# EAGLE library part TI-SN74LV4052A (library IC, 4to1 BackplaneMUX)
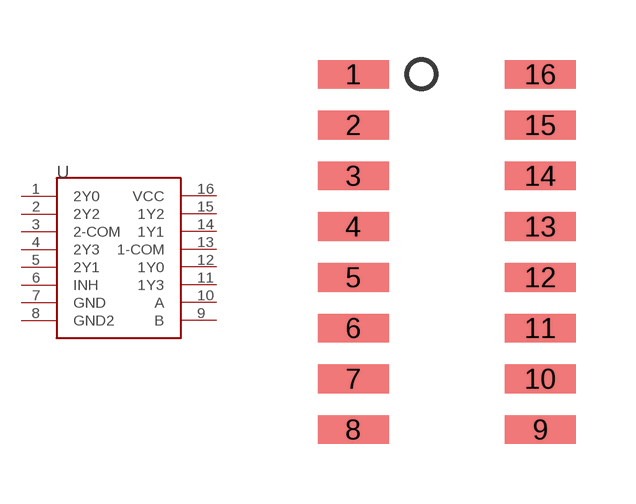
[diagram p0: symbol with the pads of SOIC-16; footprint SOIC-16]

Designator prefix -

## TI-SN74LV4052A  [SOIC-16]
1  2Y0
2  2Y2
3  2-COM
4  2Y3
5  2Y1
6  INH
7  GND
8  GND2
9  B
10  A
11  1Y3
12  1Y0
13  1-COM
14  1Y1
15  1Y2
16  VCC

## Footprint SOIC-16 (pad centres in mm)
smd 1.78 x 0.72: 1 0,0; 2 0,-1.27; 3 0,-2.54; 4 0,-3.81; 5 0,-5.08; 6 0,-6.35; 7 0,-7.62; 8 0,-8.89; 9 4.68,-8.89; 10 4.68,-7.62; 11 4.68,-6.35; 12 4.68,-5.08; 13 4.68,-3.81; 14 4.68,-2.54; 15 4.68,-1.27; 16 4.68,0